# EAGLE library part 22-28-4085 (library StarLiteLib)
.100" (2.54mm) Center Header - 8 Pin
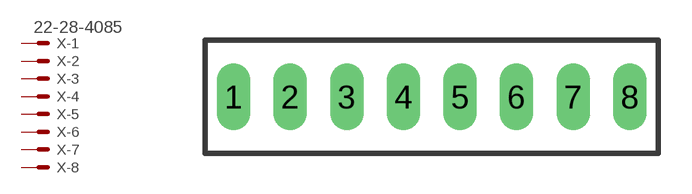
[diagram p3: symbol with the pads of 22-28-4085; footprint 22-28-4085]

Designator prefix X; gates -1=MV-1 -2=M-1 -3=M-1 -4=M-1 -5=M-1 -6=M-1 -7=M-1 -8=M-1

## 22-28-4085 (MF: MOLEX; MPN: 22-23-2081; OC_FARNELL: 1756826; OC_NEWARK: 01C7592)  [22-28-4085]
1  -1:S  pas
2  -2:S  pas
3  -3:S  pas
4  -4:S  pas
5  -5:S  pas
6  -6:S  pas
7  -7:S  pas
8  -8:S  pas

## Footprint 22-28-4085 (pad centres in mm)
KK® 254 Solid Header, Vertical, with Friction Lock, 8 Circuits, Tin (Sn) Plating Datasheet <http://www.molex.com/pdm_docs/sd/022232081_sd.pdf>
drill 1 long: 1 -8.89,0; 2 -6.35,0; 3 -3.81,0; 4 -1.27,0; 5 1.27,0; 6 3.81,0; 7 6.35,0; 8 8.89,0